# Altium footprint library 2113_DeElectronique.PcbLib: 14 footprints
Each footprint in its own frame and in the unit in brackets; x right, y up, seen from the top. Pads: shape width x height; smd on the part's side, far side on the other; paste and mask are expansions set on the pad; w line width, h text height; cw(c..) or ccw(c..) is an arc to the next point about the centre after c.
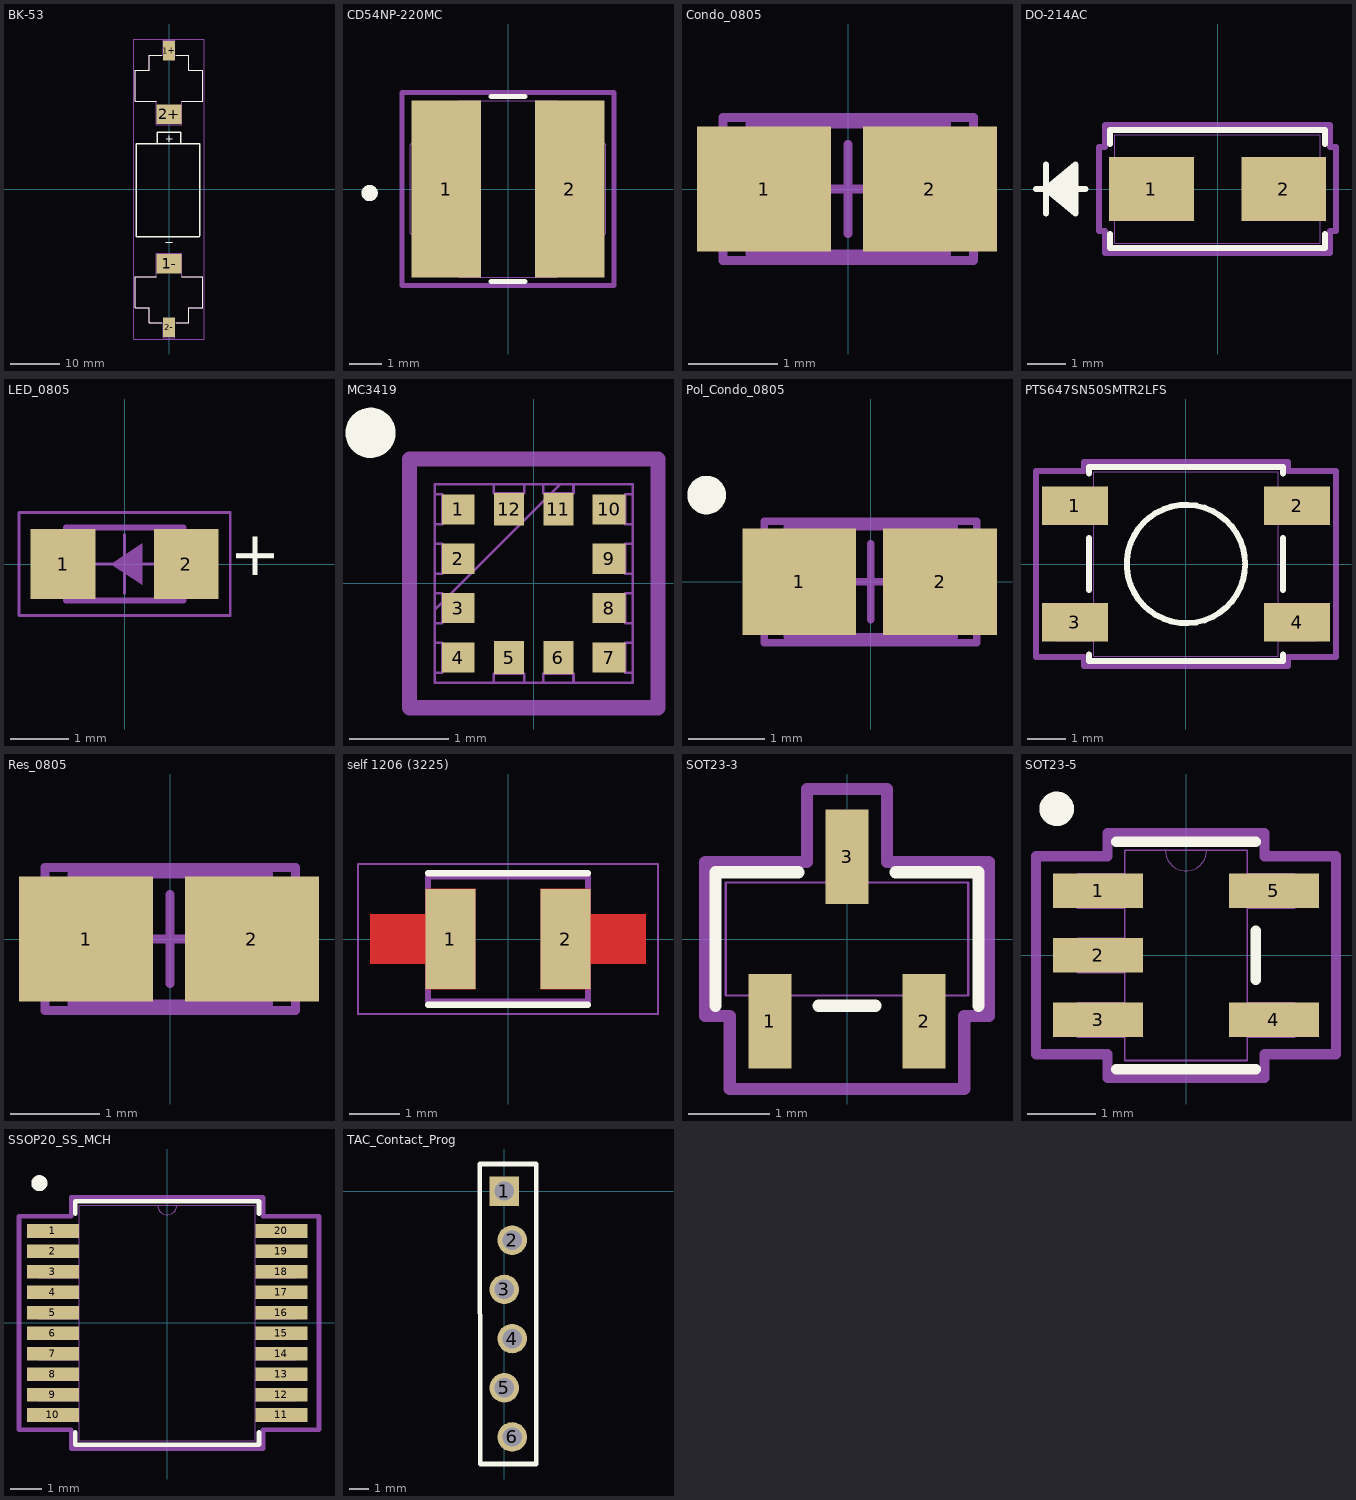
[diagram p0: the footprints below, top view; thin cyan lines are the x and y axes]

## BK-53 [mm]
pads (4):
  rect 2.34x3.96 smd: 1+(0,28.015) 2-(0,-28.015)
  rect 5.08x3.96 smd: 1-(0,-15.165) 2+(0,15.165)
Top Overlay:
  lines w0.127: -2.54,-17.765 -6.875,-17.765 -6.875,-24.115 -4,-24.115 -4,-27.095 -1.5,-27.095 ; -2.54,17.765 -6.875,17.765 -6.875,24.115 -4,24.115 -4,27.095 -1.5,27.095 ; -0.645,-10.82 0.625,-10.82 ; -0.591,10.18 0.679,10.18 ; 0.044,9.545 0.044,10.815 ; 1.5,-27.095 4,-27.095 4,-24.115 6.875,-24.115 6.875,-17.765 2.54,-17.765 ; 1.5,27.095 4,27.095 4,24.115 6.875,24.115 6.875,17.765 2.54,17.765
  lines w0.254: -2.413,9.144 -2.413,11.557 2.413,11.557 2.413,9.144 ; -6.604,-9.652 6.096,-9.652 6.223,-9.525 6.223,9.144 -6.604,9.144 -6.604,-9.652
Mechanical 13:
  lines w0.127: -0.645,-10.82 0.625,-10.82 ; -6.875,-24.115 -6.875,-17.765 -2.54,-17.765 -2.54,-13.005 2.54,-13.005 2.54,-17.765 6.875,-17.765 6.875,-24.115 4,-24.115 4,-27.095 1.15,-27.095 1.15,-30.175 -1.15,-30.175 -1.15,-27.095 -4,-27.095 -4,-24.115 -6.875,-24.115 ; -6.875,17.765 -6.875,24.115 -4,24.115 -4,27.095 -1.15,27.095 -1.15,30.175 1.15,30.175 1.15,27.095 4,27.095 4,24.115 6.875,24.115 6.875,17.765 2.54,17.765 2.54,13.005 -2.54,13.005 -2.54,17.765 -6.875,17.765
Mechanical 15:
  lines w0.05: -7.125,-30.425 -7.125,30.425 7.125,30.425 7.125,-30.425 -7.125,-30.425
3D body "BK-53--3DModel-STEP-56544.STEP": height 15.59, standoff 0, extent -6.874,13.17 6.875,30.34
3D body "BK-53--3DModel-STEP-56544.STEP": height 15.59, standoff 0, extent -6.875,-30.213 6.874,-13.043

## CD54NP-220MC [mil]
pads (2):
  rect 85x217 smd paste+0 mask+0: 1(-75.79,0) 2(75.79,0)
Top Overlay:
  circle w10: c-170,-5 r5
  lines w6: -21.18,-113.5 21.18,-113.5 ; -21.18,113.5 21.18,113.5
Mechanical 13:
  lines w1: -120,-54.25 -120,54.25 -60,108.5 60,108.5 120,54.25 120,-54.25 60,-108.5 -60,-108.5 -120,-54.25
  text "*" at -112.5,-50 h50
Mechanical 15:
  lines w6: -130,-118.5 -130,118.5 130,118.5 130,-118.5 -130,-118.5

## Condo_0805 [mm]
pads (2):
  rect 1.5x1.4 smd: 1(-0.94,0) 2(0.914,0)
Mechanical 13:
  lines w0.1: -1.1,-0.725 1.1,-0.725 1.1,0.725 -1.1,0.725 -1.1,-0.725
Mechanical 15:
  lines w0.1: -0.5,0 0.5,0 ; 0,-0.5 0,0.5 ; -1.4,-0.8 1.4,-0.8 1.4,0.8 -1.4,0.8 -1.4,-0.8
3D body: height 1.4, standoff 0, extent -1.1,-0.725 1.1,0.725

## DO-214AC [mil] "DO-214AC"
pads (2):
  rect 86x65 smd paste+0 mask+0: 1(-67,0) 2(67,0)
Top Overlay:
  lines w6: -184,0 -134,0 ; -174,-25 -174,25 ; -144,-20 -174,0 ; -144,-15 -174,0 ; -144,-10 -174,0 ; -144,-5 -174,0 ; -144,5 -174,0 ; -144,10 -174,0 ; -144,15 -174,0 ; -144,20 -174,0 ; -109,-45.6 -109,-60 109,-60 109,-45.6 ; -109,45.6 -109,60 109,60 109,45.6 ; -174,0 -144,25 -144,-25 -174,0
Mechanical 13:
  lines w1: -184,0 -134,0 ; -174,-25 -174,25 ; -144,-20 -174,0 ; -144,-15 -174,0 ; -144,-10 -174,0 ; -144,-5 -174,0 ; -144,5 -174,0 ; -144,10 -174,0 ; -144,15 -174,0 ; -144,20 -174,0 ; -174,0 -144,25 -144,-25 -174,0 ; -104,-55 104,-55 104,55 -104,55 -104,-55
Mechanical 15:
  lines w6: -120,-42.5 -120,42.5 -114,42.5 -114,65 114,65 114,42.5 120,42.5 120,-42.5 114,-42.5 114,-65 -114,-65 -114,-42.5 -120,-42.5

## LED_0805 [mm]
pads (2):
  rect 1.1x1.2 smd: 1(-1.051,0.001) 2(1.049,0.001)
Top Overlay:
  text "+" at 2.549,-0.299 h0.76
Mechanical 13:
  region: -0.234,0.001 0.299,-0.349 0.299,0.351
  lines w0.1: -1.001,-0.624 -1.001,0.626 0.999,0.626 0.999,-0.624 -1.001,-0.624
Mechanical 15:
  lines w0.05: -0.501,0.001 0.499,0.001 ; -0.001,-0.499 -0.001,0.501 ; -1.801,-0.874 -1.801,0.876 1.799,0.876 1.799,-0.874 -1.801,-0.874
3D body "150080xS75000.stp": height 0.7, standoff 0, extent -1.001,-0.624 0.999,0.626

## MC3419 [mil] "Accéléromètres Small Digital 3-axis Accelerometer Sensor"
pads (12):
  rect 13x12 smd paste+0 mask+0: 1(-30,29.53) 2(-30,9.84) 3(-30,-9.84) 4(-30,-29.53) 7(30,-29.53) 8(30,-9.84) 9(30,9.84) 10(30,29.53)
  rect 12x13 smd paste+0 mask+0: 5(-9.84,-29.5) 6(9.84,-29.5) 11(9.84,29.5) 12(-9.84,29.5)
Top Overlay:
  circle w10: c-65,60 r5
Mechanical 13:
  lines w1: -39.5,-10.5 10.5,39.5 ; -39.5,-39.5 -39.5,39.5 39.5,39.5 39.5,-39.5 -39.5,-39.5 ; -39.5,-35.53 -36.5,-35.53 -36.5,-23.53 -39.5,-23.53 -39.5,-35.53 ; -39.5,-15.84 -36.5,-15.84 -36.5,-3.84 -39.5,-3.84 -39.5,-15.84 ; -39.5,3.84 -36.5,3.84 -36.5,15.84 -39.5,15.84 -39.5,3.84 ; -39.5,23.53 -36.5,23.53 -36.5,35.53 -39.5,35.53 -39.5,23.53 ; -15.84,-39.5 -15.84,-36 -3.84,-36 -3.84,-39.5 -15.84,-39.5 ; -15.84,36 -15.84,39.5 -3.84,39.5 -3.84,36 -15.84,36 ; 3.84,-39.5 3.84,-36 15.84,-36 15.84,-39.5 3.84,-39.5 ; 3.84,36 3.84,39.5 15.84,39.5 15.84,36 3.84,36 ; 36.5,-35.53 36.5,-23.53 39.5,-23.53 39.5,-35.53 36.5,-35.53 ; 36.5,-15.84 36.5,-3.84 39.5,-3.84 39.5,-15.84 36.5,-15.84 ; 36.5,3.84 36.5,15.84 39.5,15.84 39.5,3.84 36.5,3.84 ; 36.5,23.53 36.5,35.53 39.5,35.53 39.5,23.53 36.5,23.53
Mechanical 15:
  lines w6: -49.5,-49.5 -25.84,-49.5 25.84,-49.5 49.5,-49.5 49.5,-45.53 49.5,45.53 49.5,49.5 25.84,49.5 -25.84,49.5 -49.5,49.5 -49.5,45.53 -49.5,-45.53 -49.5,-49.5
3D body "VLGA-12_MEM.step": height 39.09, standoff 0, extent -39.48,-39.48 39.5,39.49

## Pol_Condo_0805 [mm]
pads (2):
  rect 1.5x1.4 smd: 1(-0.94,0) 2(0.914,0)
Top Overlay:
  circle w0.254: c-2.159,1.143 r0.127
Mechanical 13:
  lines w0.1: -1.1,-0.725 -1.1,0.725 1.1,0.725 1.1,-0.725 -1.1,-0.725
Mechanical 15:
  lines w0.1: -0.5,0 0.5,0 ; 0,-0.5 0,0.5 ; -1.4,-0.8 -1.4,0.8 1.4,0.8 1.4,-0.8 -1.4,-0.8
3D body: height 1.4, standoff 0, extent -1.1,-0.725 1.1,0.725

## PTS647SN50SMTR2LFS [mil] "Interrupteurs de contact 50mA 12VDC, 1.0N 5.0mm H, G leads"
pads (4):
  rect 67x39 smd paste+0 mask+0: 1(-112.49,59.06) 2(112.51,59.06) 3(-112.49,-59.05) 4(112.51,-59.05)
Top Overlay:
  circle w6: c0.01,0.01 r60
  lines w6: -98.49,-91.65 -98.49,-98.49 98.51,-98.49 98.51,-91.65 ; -98.49,-26.45 -98.49,26.46 ; -98.49,91.66 -98.49,98.51 98.51,98.51 98.51,91.66 ; 98.51,-26.45 98.51,26.46
Mechanical 13:
  circle w0: c0.01,0.01 r60
  lines w1: -131.99,-77.55 -131.99,-40.55 -93.49,-40.55 -93.49,-77.55 -131.99,-77.55 ; -131.99,40.56 -131.99,77.56 -93.49,77.56 -93.49,40.56 -131.99,40.56 ; -93.49,-93.49 93.51,-93.49 93.51,93.51 -93.49,93.51 -93.49,-93.49 ; 93.51,-77.55 93.51,-40.55 132.01,-40.55 132.01,-77.55 93.51,-77.55 ; 93.51,40.56 93.51,77.56 132.01,77.56 132.01,40.56 93.51,40.56
Mechanical 15:
  lines w6: -151.99,-94.05 -103.49,-94.05 -103.49,-103.49 103.51,-103.49 103.51,-94.05 152.01,-94.05 152.01,94.06 103.51,94.06 103.51,103.51 -103.49,103.51 -103.49,94.06 -151.99,94.06 -151.99,-94.05
3D body "PTS647SN50SMTR2LFS.stp": height 196.85, standoff 0, extent -125.95,-87.58 129.95,89.59

## Res_0805 [mm]
pads (2):
  rect 1.5x1.4 smd: 1(-0.94,0) 2(0.914,0)
Mechanical 13:
  lines w0.1: -1.1,-0.725 -1.1,0.725 1.1,0.725 1.1,-0.725 -1.1,-0.725
Mechanical 15:
  lines w0.1: -0.5,0 0.5,0 ; 0,-0.5 0,0.5 ; -1.4,-0.8 -1.4,0.8 1.4,0.8 1.4,-0.8 -1.4,-0.8
3D body: height 1.4, standoff 0, extent -1.1,-0.725 1.1,0.725

## self 1206 (3225) [mm] "Inductance fixes 560uH 10%"
pads (2):
  rect 1x2 smd paste-2 mask+0: 1(-1.15,0) 2(1.15,0)
Top Layer:
  region: 1.65,0.5 2.75,0.5 2.75,-0.5 1.65,-0.5 1.65,-1 0.65,-1 0.65,1 1.65,1
  region: -0.65,-1 -1.65,-1 -1.65,-0.5 -2.75,-0.5 -2.75,0.5 -1.65,0.5 -1.65,1 -0.65,1
Top Overlay:
  lines w0.127: -1.6,-1.314 1.6,-1.314 ; -1.6,1.314 1.6,1.314
Top Paste:
  region: 1.65,0.5 2.75,0.5 2.75,-0.5 1.65,-0.5 1.65,-1 0.65,-1 0.65,1 1.65,1
  region: -0.65,-1 -1.65,-1 -1.65,-0.5 -2.75,-0.5 -2.75,0.5 -1.65,0.5 -1.65,1 -0.65,1
Top Solder:
  region: 1.75,0.6 2.85,0.6 2.85,-0.6 1.75,-0.6 1.75,-1.1 0.55,-1.1 0.55,1.1 1.75,1.1
  region: -0.55,-1.1 -1.75,-1.1 -1.75,-0.6 -2.85,-0.6 -2.85,0.6 -1.75,0.6 -1.75,1.1 -0.55,1.1
Mechanical 13:
  lines w0.127: -1.6,-1.25 -1.6,1.25 1.6,1.25 1.6,-1.25 -1.6,-1.25
Mechanical 15:
  lines w0.05: -3,-1.5 -3,1.5 3,1.5 3,-1.5 -3,-1.5
3D body "LQH32CN561K23L.STEP": height 2.2, standoff 0, extent -1.6,-1.275 1.6,1.225

## SOT23-3 [mil]
pads (3):
  rect 21x46 smd paste+0 mask+0: 1(-37.5,-40) 2(37.5,-40) 3(0,40)
Top Overlay:
  lines w6: -64,-32.5 -64,32.5 -23.6,32.5 ; -13.9,-32.5 13.9,-32.5 ; 23.6,32.5 64,32.5 64,-32.5
Mechanical 13:
  lines w1: -59,-27.5 59,-27.5 59,27.5 -59,27.5 -59,-27.5 ; -47,-49 -47,-27.5 -28,-27.5 -28,-49 -47,-49 ; -9.5,27.5 9.5,27.5 9.5,49 -9.5,49 -9.5,27.5 ; 28,-49 28,-27.5 47,-27.5 47,-49 28,-49
Mechanical 15:
  lines w6: -69,-37.5 -69,37.5 -19.5,37.5 -19.5,73 19.5,73 19.5,37.5 69,37.5 69,-37.5 57,-37.5 57,-73 -57,-73 -57,-37.5 -69,-37.5
3D body "PMV160UP_NEX.step": height 43.11, standoff 0, extent -59,-49.01 59.02,49.02

## SOT23-5 [mil]
pads (5):
  rect 52x20 smd paste+0 mask+0: 1(-51,37.4) 2(-51,0) 3(-51,-37.4) 4(51,-37.4) 5(51,37.4)
Top Overlay:
  circle w10: c-75,85 r5
  lines w6: -40.5,-66 40.5,-66 ; -40.5,66 40.5,66 ; 40.5,-14.3 40.5,14.3
Mechanical 13:
  lines w0: -12,61 ccw(c0,61) 12,61
  lines w1: -63,-47.4 -63,-27.4 -35.5,-27.4 -35.5,-47.4 -63,-47.4 ; -63,-10 -63,10 -35.5,10 -35.5,-10 -63,-10 ; -63,27.4 -63,47.4 -35.5,47.4 -35.5,27.4 -63,27.4 ; -35.5,-61 35.5,-61 35.5,61 -35.5,61 -35.5,-61 ; 35.5,-47.4 35.5,-27.4 63,-27.4 63,-47.4 35.5,-47.4 ; 35.5,27.4 35.5,47.4 63,47.4 63,27.4 35.5,27.4
Mechanical 15:
  lines w6: -87,-57.4 -45.5,-57.4 -45.5,-71 45.5,-71 45.5,-57.4 87,-57.4 87,57.4 45.5,57.4 45.5,71 -45.5,71 -45.5,57.4 -87,57.4 -87,-57.4
3D body "SOT-23-5_MC_MCH.step": height 57.09, standoff 0, extent -62.99,-60.98 63,60.99

## SSOP20_SS_MCH [mil]
pads (20):
  rect 65x17 smd paste+0 mask+0: 1(-143,115.16) 2(-143,89.57) 3(-143,63.98) 4(-143,38.39) 5(-143,12.8) 6(-143,-12.8) 7(-143,-38.39) 8(-143,-63.98) 9(-143,-89.57) 10(-143,-115.16) 11(143,-115.16) 12(143,-89.57) 13(143,-63.98) 14(143,-38.39) 15(143,-12.8) 16(143,12.8) 17(143,38.39) 18(143,63.98) 19(143,89.57) 20(143,115.16)
Top Overlay:
  circle w10: c-160,175 r5
  lines w6: -115,-136.76 -115,-152.5 115,-152.5 115,-136.76 ; -115,136.76 -115,152.5 115,152.5 115,136.76
Mechanical 13:
  lines w0: -12,147.5 ccw(c0,147.5) 12,147.5
  lines w1: -161.5,-122.66 -161.5,-107.66 -110,-107.66 -110,-122.66 -161.5,-122.66 ; -161.5,-97.07 -161.5,-82.07 -110,-82.07 -110,-97.07 -161.5,-97.07 ; -161.5,-71.48 -161.5,-56.48 -110,-56.48 -110,-71.48 -161.5,-71.48 ; -161.5,-45.89 -161.5,-30.89 -110,-30.89 -110,-45.89 -161.5,-45.89 ; -161.5,-20.3 -161.5,-5.3 -110,-5.3 -110,-20.3 -161.5,-20.3 ; -161.5,5.3 -161.5,20.3 -110,20.3 -110,5.3 -161.5,5.3 ; -161.5,30.89 -161.5,45.89 -110,45.89 -110,30.89 -161.5,30.89 ; -161.5,56.48 -161.5,71.48 -110,71.48 -110,56.48 -161.5,56.48 ; -161.5,82.07 -161.5,97.07 -110,97.07 -110,82.07 -161.5,82.07 ; -161.5,107.66 -161.5,122.66 -110,122.66 -110,107.66 -161.5,107.66 ; -110,-147.5 110,-147.5 110,147.5 -110,147.5 -110,-147.5 ; 110,-122.66 110,-107.66 161.5,-107.66 161.5,-122.66 110,-122.66 ; 110,-97.07 110,-82.07 161.5,-82.07 161.5,-97.07 110,-97.07 ; 110,-71.48 110,-56.48 161.5,-56.48 161.5,-71.48 110,-71.48 ; 110,-45.89 110,-30.89 161.5,-30.89 161.5,-45.89 110,-45.89 ; 110,-20.3 110,-5.3 161.5,-5.3 161.5,-20.3 110,-20.3 ; 110,5.3 110,20.3 161.5,20.3 161.5,5.3 110,5.3 ; 110,30.89 110,45.89 161.5,45.89 161.5,30.89 110,30.89 ; 110,56.48 110,71.48 161.5,71.48 161.5,56.48 110,56.48 ; 110,82.07 110,97.07 161.5,97.07 161.5,82.07 110,82.07 ; 110,107.66 110,122.66 161.5,122.66 161.5,107.66 110,107.66
Mechanical 15:
  lines w6: -185.5,-133.66 -185.5,133.66 -120,133.66 -120,157.5 120,157.5 120,133.66 190,133.66 190,-133.66 120,-133.66 120,-157.5 -120,-157.5 -120,-133.66 -185.5,-133.66
3D body "SSOP20_SS_MCH.step": height 79.09, standoff 0, extent -161.49,-147.47 161.5,147.49

## TAC_Contact_Prog [mil]
pads (6):
  rect 60x60 hole 39.37: 1(0,0)
  round 60 hole 39.37: 2(16,-100) 3(0,-200) 4(16,-300) 5(0,-400) 6(16,-500)
Top Overlay:
  lines w10: -50,55 -48.97,-555 65,-555 65,55 -50,55